# Altium integrated library Altium_WCAP-CSGP (rev19a).IntLib: 938 symbols (part 9 of 16)
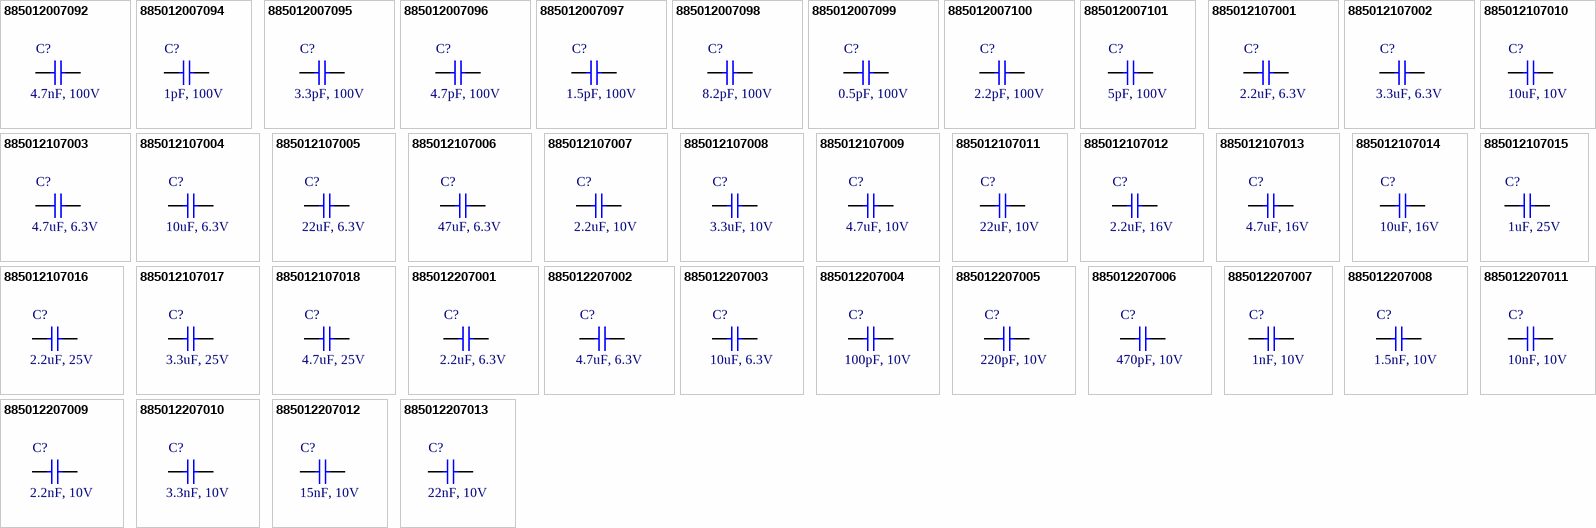
[diagram p35: symbols 885012007092 to 885012207013]

## 885012207010
designator C?, comment 3.3nF, 10V
WCAP-CSGP General Purpose Ceramic Capacitors, size 0805, 3.3nF, +/-10%, 10VDC; Part Number: 885012207010; Isolation Resistance: >=10GOhm; Ceramic Type: X7R; Technical Reference: X7R0805332K010DFCT10000; ComponentLink1Description: Manufacturer; ComponentLink1URL: http://www.we-online.de; ComponentLink2Description: Datasheet; ComponentLink2URL: https://katalog.we-online.com/pbs/datasheet/885012207010.pdf; Operating Temperature: -55 to +125degC; Packaging: Tape and Reel; Publisher: Wurth Elektronik; Rated Voltage: 10VDC; Published Date: August 2019; Capacitance Tolerance: +/-10%; Dissipation Factor: =<5%; Height: 0.8mm +/-0.10mm; Mounting Technology: SMD; Size: 0805; Capacitance: 3.3nF
footprint WCAP-CSGP_0805_H=0.8mm_Wave
footprint WCAP-CSGP_0805_H=0.8mm_Reflow
pins: 1, 2

## 885012207011
designator C?, comment 10nF, 10V
WCAP-CSGP General Purpose Ceramic Capacitors, size 0805, 10nF, +/-10%, 10VDC; Part Number: 885012207011; Isolation Resistance: >=10GOhm; Ceramic Type: X7R; Technical Reference: X7R0805103K010DFCT10000; ComponentLink1Description: Manufacturer; ComponentLink1URL: http://www.we-online.de; ComponentLink2Description: Datasheet; ComponentLink2URL: https://katalog.we-online.com/pbs/datasheet/885012207011.pdf; Operating Temperature: -55 to +125degC; Packaging: Tape and Reel; Publisher: Wurth Elektronik; Rated Voltage: 10VDC; Published Date: August 2019; Capacitance Tolerance: +/-10%; Dissipation Factor: =<5%; Height: 0.8mm +/-0.10mm; Mounting Technology: SMD; Size: 0805; Capacitance: 10nF
footprint WCAP-CSGP_0805_H=0.8mm_Wave
footprint WCAP-CSGP_0805_H=0.8mm_Reflow
pins: 1, 2

## 885012207012
designator C?, comment 15nF, 10V
WCAP-CSGP General Purpose Ceramic Capacitors, size 0805, 15nF, +/-10%, 10VDC; Part Number: 885012207012; Isolation Resistance: >=10GOhm; Ceramic Type: X7R; Technical Reference: X7R0805153K010DFCT10000; ComponentLink1Description: Manufacturer; ComponentLink1URL: http://www.we-online.de; ComponentLink2Description: Datasheet; ComponentLink2URL: https://katalog.we-online.com/pbs/datasheet/885012207012.pdf; Operating Temperature: -55 to +125degC; Packaging: Tape and Reel; Publisher: Wurth Elektronik; Rated Voltage: 10VDC; Published Date: August 2019; Capacitance Tolerance: +/-10%; Dissipation Factor: =<5%; Height: 0.8mm +/-0.10mm; Mounting Technology: SMD; Size: 0805; Capacitance: 15nF
footprint WCAP-CSGP_0805_H=0.8mm_Wave
footprint WCAP-CSGP_0805_H=0.8mm_Reflow
pins: 1, 2

## 885012207013
designator C?, comment 22nF, 10V
WCAP-CSGP General Purpose Ceramic Capacitors, size 0805, 22nF, +/-10%, 10VDC; Part Number: 885012207013; Isolation Resistance: >=10GOhm; Ceramic Type: X7R; Technical Reference: X7R0805223K010DFCT10000; ComponentLink1Description: Manufacturer; ComponentLink1URL: http://www.we-online.de; ComponentLink2Description: Datasheet; ComponentLink2URL: https://katalog.we-online.com/pbs/datasheet/885012207013.pdf; Operating Temperature: -55 to +125degC; Packaging: Tape and Reel; Publisher: Wurth Elektronik; Rated Voltage: 10VDC; Published Date: August 2019; Capacitance Tolerance: +/-10%; Dissipation Factor: =<5%; Height: 0.8mm +/-0.10mm; Mounting Technology: SMD; Size: 0805; Capacitance: 22nF
footprint WCAP-CSGP_0805_H=0.8mm_Wave
footprint WCAP-CSGP_0805_H=0.8mm_Reflow
pins: 1, 2

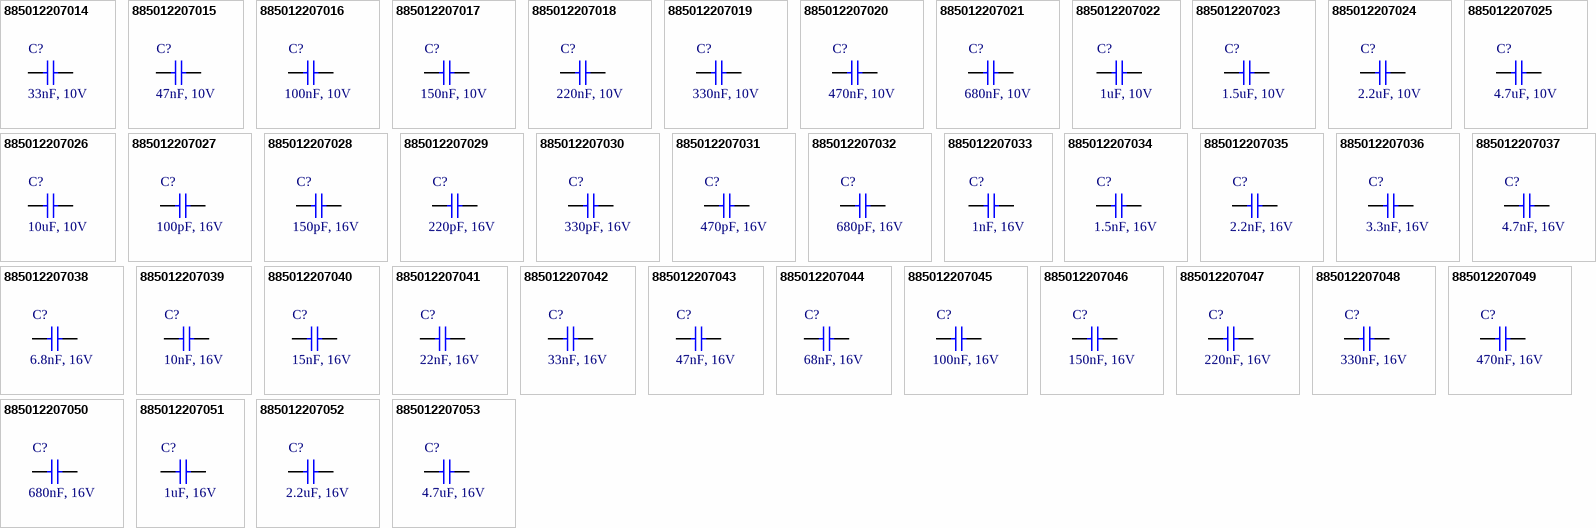
[diagram p14: symbols 885012207014 to 885012207053]

## 885012207014
designator C?, comment 33nF, 10V
WCAP-CSGP General Purpose Ceramic Capacitors, size 0805, 33nF, +/-10%, 10VDC; Part Number: 885012207014; Isolation Resistance: >=10GOhm; Ceramic Type: X7R; Technical Reference: X7R0805333K010DFCT10000; ComponentLink1Description: Manufacturer; ComponentLink1URL: http://www.we-online.de; ComponentLink2Description: Datasheet; ComponentLink2URL: https://katalog.we-online.com/pbs/datasheet/885012207014.pdf; Operating Temperature: -55 to +125degC; Packaging: Tape and Reel; Publisher: Wurth Elektronik; Rated Voltage: 10VDC; Published Date: August 2019; Capacitance Tolerance: +/-10%; Dissipation Factor: =<5%; Height: 0.8mm +/-0.10mm; Mounting Technology: SMD; Size: 0805; Capacitance: 33nF
footprint WCAP-CSGP_0805_H=0.8mm_Wave
footprint WCAP-CSGP_0805_H=0.8mm_Reflow
pins: 1, 2

## 885012207015
designator C?, comment 47nF, 10V
WCAP-CSGP General Purpose Ceramic Capacitors, size 0805, 47nF, +/-10%, 10VDC; Part Number: 885012207015; Isolation Resistance: >=10GOhm; Ceramic Type: X7R; Technical Reference: X7R0805473K010DFCT10000; ComponentLink1Description: Manufacturer; ComponentLink1URL: http://www.we-online.de; ComponentLink2Description: Datasheet; ComponentLink2URL: https://katalog.we-online.com/pbs/datasheet/885012207015.pdf; Operating Temperature: -55 to +125degC; Packaging: Tape and Reel; Publisher: Wurth Elektronik; Rated Voltage: 10VDC; Published Date: August 2019; Capacitance Tolerance: +/-10%; Dissipation Factor: =<5%; Height: 0.8mm +/-0.10mm; Mounting Technology: SMD; Size: 0805; Capacitance: 47nF
footprint WCAP-CSGP_0805_H=0.8mm_Wave
footprint WCAP-CSGP_0805_H=0.8mm_Reflow
pins: 1, 2

## 885012207016
designator C?, comment 100nF, 10V
WCAP-CSGP General Purpose Ceramic Capacitors, size 0805, 100nF, +/-10%, 10VDC; Part Number: 885012207016; Isolation Resistance: >=5GOhm; Ceramic Type: X7R; Technical Reference: X7R0805104K010DFCT10000; ComponentLink1Description: Manufacturer; ComponentLink1URL: http://www.we-online.de; ComponentLink2Description: Datasheet; ComponentLink2URL: https://katalog.we-online.com/pbs/datasheet/885012207016.pdf; Operating Temperature: -55 to +125degC; Packaging: Tape and Reel; Publisher: Wurth Elektronik; Rated Voltage: 10VDC; Published Date: August 2019; Capacitance Tolerance: +/-10%; Dissipation Factor: =<5%; Height: 0.8mm +/-0.10mm; Mounting Technology: SMD; Size: 0805; Capacitance: 100nF
footprint WCAP-CSGP_0805_H=0.8mm_Wave
footprint WCAP-CSGP_0805_H=0.8mm_Reflow
pins: 1, 2

## 885012207017
designator C?, comment 150nF, 10V
WCAP-CSGP General Purpose Ceramic Capacitors, size 0805, 150nF, +/-10%, 10VDC; Part Number: 885012207017; Isolation Resistance: >=3.3GOhm; Ceramic Type: X7R; Technical Reference: X7R0805154K010DFCT10000; ComponentLink1Description: Manufacturer; ComponentLink1URL: http://www.we-online.de; ComponentLink2Description: Datasheet; ComponentLink2URL: https://katalog.we-online.com/pbs/datasheet/885012207017.pdf; Operating Temperature: -55 to +125degC; Packaging: Tape and Reel; Publisher: Wurth Elektronik; Rated Voltage: 10VDC; Published Date: August 2019; Capacitance Tolerance: +/-10%; Dissipation Factor: =<5%; Height: 1.25mm +/-0.10mm; Mounting Technology: SMD; Size: 0805; Capacitance: 150nF
footprint WCAP-CSGP_0805_H=1.25mm
pins: 1, 2

## 885012207018
designator C?, comment 220nF, 10V
WCAP-CSGP General Purpose Ceramic Capacitors, size 0805, 220nF, +/-10%, 10VDC; Part Number: 885012207018; Isolation Resistance: >=2.3GOhm; Ceramic Type: X7R; Technical Reference: X7R0805224K010DFCT10000; ComponentLink1Description: Manufacturer; ComponentLink1URL: http://www.we-online.de; ComponentLink2Description: Datasheet; ComponentLink2URL: https://katalog.we-online.com/pbs/datasheet/885012207018.pdf; Operating Temperature: -55 to +125degC; Packaging: Tape and Reel; Publisher: Wurth Elektronik; Rated Voltage: 10VDC; Published Date: August 2019; Capacitance Tolerance: +/-10%; Dissipation Factor: =<5%; Height: 1.25mm +/-0.10mm; Mounting Technology: SMD; Size: 0805; Capacitance: 220nF
footprint WCAP-CSGP_0805_H=1.25mm
pins: 1, 2

## 885012207019
designator C?, comment 330nF, 10V
WCAP-CSGP General Purpose Ceramic Capacitors, size 0805, 330nF, +/-10%, 10VDC; Part Number: 885012207019; Isolation Resistance: >=1.5GOhm; Ceramic Type: X7R; Technical Reference: X7R0805334K010DFCT10000; ComponentLink1Description: Manufacturer; ComponentLink1URL: http://www.we-online.de; ComponentLink2Description: Datasheet; ComponentLink2URL: https://katalog.we-online.com/pbs/datasheet/885012207019.pdf; Operating Temperature: -55 to +125degC; Packaging: Tape and Reel; Publisher: Wurth Elektronik; Rated Voltage: 10VDC; Published Date: August 2019; Capacitance Tolerance: +/-10%; Dissipation Factor: =<5%; Height: 1.25mm +/-0.10mm; Mounting Technology: SMD; Size: 0805; Capacitance: 330nF
footprint WCAP-CSGP_0805_H=1.25mm
pins: 1, 2

## 885012207020
designator C?, comment 470nF, 10V
WCAP-CSGP General Purpose Ceramic Capacitors, size 0805, 470nF, +/-10%, 10VDC; Part Number: 885012207020; Isolation Resistance: >=1.1GOhm; Ceramic Type: X7R; Technical Reference: X7R0805474K010DFCT10000; ComponentLink1Description: Manufacturer; ComponentLink1URL: http://www.we-online.de; ComponentLink2Description: Datasheet; ComponentLink2URL: https://katalog.we-online.com/pbs/datasheet/885012207020.pdf; Operating Temperature: -55 to +125degC; Packaging: Tape and Reel; Publisher: Wurth Elektronik; Rated Voltage: 10VDC; Published Date: August 2019; Capacitance Tolerance: +/-10%; Dissipation Factor: =<5%; Height: 1.25mm +/-0.10mm; Mounting Technology: SMD; Size: 0805; Capacitance: 470nF
footprint WCAP-CSGP_0805_H=1.25mm
pins: 1, 2

## 885012207021
designator C?, comment 680nF, 10V
WCAP-CSGP General Purpose Ceramic Capacitors, size 0805, 680nF, +/-10%, 10VDC; Part Number: 885012207021; Isolation Resistance: >=0.7GOhm; Ceramic Type: X7R; Technical Reference: X7R0805684K010DFCT10000; ComponentLink1Description: Manufacturer; ComponentLink1URL: http://www.we-online.de; ComponentLink2Description: Datasheet; ComponentLink2URL: https://katalog.we-online.com/pbs/datasheet/885012207021.pdf; Operating Temperature: -55 to +125degC; Packaging: Tape and Reel; Publisher: Wurth Elektronik; Rated Voltage: 10VDC; Published Date: August 2019; Capacitance Tolerance: +/-10%; Dissipation Factor: =<5%; Height: 1.25mm +/-0.10mm; Mounting Technology: SMD; Size: 0805; Capacitance: 680nF
footprint WCAP-CSGP_0805_H=1.25mm
pins: 1, 2

## 885012207022
designator C?, comment 1uF, 10V
WCAP-CSGP General Purpose Ceramic Capacitors, size 0805, 1uF, +/-10%, 10VDC; Part Number: 885012207022; Isolation Resistance: >=0.5GOhm; Ceramic Type: X7R; Technical Reference: X7R0805105K010DFCT10000; ComponentLink1Description: Manufacturer; ComponentLink1URL: http://www.we-online.de; ComponentLink2Description: Datasheet; ComponentLink2URL: https://katalog.we-online.com/pbs/datasheet/885012207022.pdf; Operating Temperature: -55 to +125degC; Packaging: Tape and Reel; Publisher: Wurth Elektronik; Rated Voltage: 10VDC; Published Date: August 2019; Capacitance Tolerance: +/-10%; Dissipation Factor: =<5%; Height: 1.25mm +/-0.10mm; Mounting Technology: SMD; Size: 0805; Capacitance: 1uF
footprint WCAP-CSGP_0805_H=1.25mm
pins: 1, 2

## 885012207023
designator C?, comment 1.5uF, 10V
WCAP-CSGP General Purpose Ceramic Capacitors, size 0805, 1.5uF, +/-10%, 10VDC; Part Number: 885012207023; Isolation Resistance: >=0.3GOhm; Ceramic Type: X7R; Technical Reference: X7R0805155K010DFCT10000; ComponentLink1Description: Manufacturer; ComponentLink1URL: http://www.we-online.de; ComponentLink2Description: Datasheet; ComponentLink2URL: https://katalog.we-online.com/pbs/datasheet/885012207023.pdf; Operating Temperature: -55 to +125degC; Packaging: Tape and Reel; Publisher: Wurth Elektronik; Rated Voltage: 10VDC; Published Date: August 2019; Capacitance Tolerance: +/-10%; Dissipation Factor: =<5%; Height: 1.25mm +/-0.20mm; Mounting Technology: SMD; Size: 0805; Capacitance: 1.5uF
footprint WCAP-CSGP_0805_H=1.25mm
pins: 1, 2

## 885012207024
designator C?, comment 2.2uF, 10V
WCAP-CSGP General Purpose Ceramic Capacitors, size 0805, 2.2uF, +/-10%, 10VDC; Part Number: 885012207024; Isolation Resistance: >=0.05GOhm; Ceramic Type: X7R; Technical Reference: X7R0805225K010DFCT10000; ComponentLink1Description: Manufacturer; ComponentLink1URL: http://www.we-online.de; ComponentLink2Description: Datasheet; ComponentLink2URL: https://katalog.we-online.com/pbs/datasheet/885012207024.pdf; Operating Temperature: -55 to +125degC; Packaging: Tape and Reel; Publisher: Wurth Elektronik; Rated Voltage: 10VDC; Published Date: August 2019; Capacitance Tolerance: +/-10%; Dissipation Factor: =<10%; Height: 1.25mm +/-0.20mm; Mounting Technology: SMD; Size: 0805; Capacitance: 2.2uF
footprint WCAP-CSGP_0805_H=1.25mm
pins: 1, 2

## 885012207025
designator C?, comment 4.7uF, 10V
WCAP-CSGP General Purpose Ceramic Capacitors, size 0805, 4.7uF, +/-10%, 10VDC; Part Number: 885012207025; Isolation Resistance: >=0.02GOhm; Ceramic Type: X7R; Technical Reference: X7R0805475K010DFCT10000; ComponentLink1Description: Manufacturer; ComponentLink1URL: http://www.we-online.de; ComponentLink2Description: Datasheet; ComponentLink2URL: https://katalog.we-online.com/pbs/datasheet/885012207025.pdf; Operating Temperature: -55 to +125degC; Packaging: Tape and Reel; Publisher: Wurth Elektronik; Rated Voltage: 10VDC; Published Date: August 2019; Capacitance Tolerance: +/-10%; Dissipation Factor: =<10%; Height: 1.25mm +/-0.10mm; Mounting Technology: SMD; Size: 0805; Capacitance: 4.7uF
footprint WCAP-CSGP_0805_H=1.25mm
pins: 1, 2

## 885012207026
designator C?, comment 10uF, 10V
WCAP-CSGP General Purpose Ceramic Capacitors, size 0805, 10uF, +/-10%, 10VDC; Part Number: 885012207026; Isolation Resistance: >=0.01GOhm; Ceramic Type: X7R; Technical Reference: X7R0805106K010DFCT10000; ComponentLink1Description: Manufacturer; ComponentLink1URL: http://www.we-online.de; ComponentLink2Description: Datasheet; ComponentLink2URL: https://katalog.we-online.com/pbs/datasheet/885012207026.pdf; Operating Temperature: -55 to +125degC; Packaging: Tape and Reel; Publisher: Wurth Elektronik; Rated Voltage: 10VDC; Published Date: August 2019; Capacitance Tolerance: +/-10%; Dissipation Factor: =<10%; Height: 1.25mm +/-0.10mm; Mounting Technology: SMD; Size: 0805; Capacitance: 10uF
footprint WCAP-CSGP_0805_H=1.25mm
pins: 1, 2

## 885012207027
designator C?, comment 100pF, 16V
WCAP-CSGP General Purpose Ceramic Capacitors, size 0805, 100pF, +/-10%, 16VDC; Part Number: 885012207027; Isolation Resistance: >=10GOhm; Ceramic Type: X7R; Technical Reference: X7R0805101K016DFCT10000; ComponentLink1Description: Manufacturer; ComponentLink1URL: http://www.we-online.de; ComponentLink2Description: Datasheet; ComponentLink2URL: https://katalog.we-online.com/pbs/datasheet/885012207027.pdf; Operating Temperature: -55 to +125degC; Packaging: Tape and Reel; Publisher: Wurth Elektronik; Rated Voltage: 16VDC; Published Date: August 2019; Capacitance Tolerance: +/-10%; Dissipation Factor: =<3.5%; Height: 0.8mm +/-0.10mm; Mounting Technology: SMD; Size: 0805; Capacitance: 100pF
footprint WCAP-CSGP_0805_H=0.8mm_Wave
footprint WCAP-CSGP_0805_H=0.8mm_Reflow
pins: 1, 2

## 885012207028
designator C?, comment 150pF, 16V
WCAP-CSGP General Purpose Ceramic Capacitors, size 0805, 150pF, +/-10%, 16VDC; Part Number: 885012207028; Isolation Resistance: >=10GOhm; Ceramic Type: X7R; Technical Reference: X7R0805151K016DFCT10000; ComponentLink1Description: Manufacturer; ComponentLink1URL: http://www.we-online.de; ComponentLink2Description: Datasheet; ComponentLink2URL: https://katalog.we-online.com/pbs/datasheet/885012207028.pdf; Operating Temperature: -55 to +125degC; Packaging: Tape and Reel; Publisher: Wurth Elektronik; Rated Voltage: 16VDC; Published Date: August 2019; Capacitance Tolerance: +/-10%; Dissipation Factor: =<3.5%; Height: 0.8mm +/-0.10mm; Mounting Technology: SMD; Size: 0805; Capacitance: 150pF
footprint WCAP-CSGP_0805_H=0.8mm_Wave
footprint WCAP-CSGP_0805_H=0.8mm_Reflow
pins: 1, 2

## 885012207029
designator C?, comment 220pF, 16V
WCAP-CSGP General Purpose Ceramic Capacitors, size 0805, 220pF, +/-10%, 16VDC; Part Number: 885012207029; Isolation Resistance: >=10GOhm; Ceramic Type: X7R; Technical Reference: X7R0805221K016DFCT10000; ComponentLink1Description: Manufacturer; ComponentLink1URL: http://www.we-online.de; ComponentLink2Description: Datasheet; ComponentLink2URL: https://katalog.we-online.com/pbs/datasheet/885012207029.pdf; Operating Temperature: -55 to +125degC; Packaging: Tape and Reel; Publisher: Wurth Elektronik; Rated Voltage: 16VDC; Published Date: August 2019; Capacitance Tolerance: +/-10%; Dissipation Factor: =<3.5%; Height: 0.8mm +/-0.10mm; Mounting Technology: SMD; Size: 0805; Capacitance: 220pF
footprint WCAP-CSGP_0805_H=0.8mm_Wave
footprint WCAP-CSGP_0805_H=0.8mm_Reflow
pins: 1, 2

## 885012207030
designator C?, comment 330pF, 16V
WCAP-CSGP General Purpose Ceramic Capacitors, size 0805, 330pF, +/-10%, 16VDC; Part Number: 885012207030; Isolation Resistance: >=10GOhm; Ceramic Type: X7R; Technical Reference: X7R0805331K016DFCT10000; ComponentLink1Description: Manufacturer; ComponentLink1URL: http://www.we-online.de; ComponentLink2Description: Datasheet; ComponentLink2URL: https://katalog.we-online.com/pbs/datasheet/885012207030.pdf; Operating Temperature: -55 to +125degC; Packaging: Tape and Reel; Publisher: Wurth Elektronik; Rated Voltage: 16VDC; Published Date: August 2019; Capacitance Tolerance: +/-10%; Dissipation Factor: =<3.5%; Height: 0.8mm +/-0.10mm; Mounting Technology: SMD; Size: 0805; Capacitance: 330pF
footprint WCAP-CSGP_0805_H=0.8mm_Wave
footprint WCAP-CSGP_0805_H=0.8mm_Reflow
pins: 1, 2

## 885012207031
designator C?, comment 470pF, 16V
WCAP-CSGP General Purpose Ceramic Capacitors, size 0805, 470pF, +/-10%, 16VDC; Part Number: 885012207031; Isolation Resistance: >=10GOhm; Ceramic Type: X7R; Technical Reference: X7R0805471K016DFCT10000; ComponentLink1Description: Manufacturer; ComponentLink1URL: http://www.we-online.de; ComponentLink2Description: Datasheet; ComponentLink2URL: https://katalog.we-online.com/pbs/datasheet/885012207031.pdf; Operating Temperature: -55 to +125degC; Packaging: Tape and Reel; Publisher: Wurth Elektronik; Rated Voltage: 16VDC; Published Date: August 2019; Capacitance Tolerance: +/-10%; Dissipation Factor: =<3.5%; Height: 0.8mm +/-0.10mm; Mounting Technology: SMD; Size: 0805; Capacitance: 470pF
footprint WCAP-CSGP_0805_H=0.8mm_Wave
footprint WCAP-CSGP_0805_H=0.8mm_Reflow
pins: 1, 2

## 885012207032
designator C?, comment 680pF, 16V
WCAP-CSGP General Purpose Ceramic Capacitors, size 0805, 680pF, +/-10%, 16VDC; Part Number: 885012207032; Isolation Resistance: >=10GOhm; Ceramic Type: X7R; Technical Reference: X7R0805681K016DFCT10000; ComponentLink1Description: Manufacturer; ComponentLink1URL: http://www.we-online.de; ComponentLink2Description: Datasheet; ComponentLink2URL: https://katalog.we-online.com/pbs/datasheet/885012207032.pdf; Operating Temperature: -55 to +125degC; Packaging: Tape and Reel; Publisher: Wurth Elektronik; Rated Voltage: 16VDC; Published Date: August 2019; Capacitance Tolerance: +/-10%; Dissipation Factor: =<3.5%; Height: 0.8mm +/-0.10mm; Mounting Technology: SMD; Size: 0805; Capacitance: 680pF
footprint WCAP-CSGP_0805_H=0.8mm_Wave
footprint WCAP-CSGP_0805_H=0.8mm_Reflow
pins: 1, 2

## 885012207033
designator C?, comment 1nF, 16V
WCAP-CSGP General Purpose Ceramic Capacitors, size 0805, 1nF, +/-10%, 16VDC; Part Number: 885012207033; Isolation Resistance: >=10GOhm; Ceramic Type: X7R; Technical Reference: X7R0805102K016DFCT10000; ComponentLink1Description: Manufacturer; ComponentLink1URL: http://www.we-online.de; ComponentLink2Description: Datasheet; ComponentLink2URL: https://katalog.we-online.com/pbs/datasheet/885012207033.pdf; Operating Temperature: -55 to +125degC; Packaging: Tape and Reel; Publisher: Wurth Elektronik; Rated Voltage: 16VDC; Published Date: August 2019; Capacitance Tolerance: +/-10%; Dissipation Factor: =<3.5%; Height: 0.8mm +/-0.10mm; Mounting Technology: SMD; Size: 0805; Capacitance: 1nF
footprint WCAP-CSGP_0805_H=0.8mm_Wave
footprint WCAP-CSGP_0805_H=0.8mm_Reflow
pins: 1, 2

## 885012207034
designator C?, comment 1.5nF, 16V
WCAP-CSGP General Purpose Ceramic Capacitors, size 0805, 1.5nF, +/-10%, 16VDC; Part Number: 885012207034; Isolation Resistance: >=10GOhm; Ceramic Type: X7R; Technical Reference: X7R0805152K016DFCT10000; ComponentLink1Description: Manufacturer; ComponentLink1URL: http://www.we-online.de; ComponentLink2Description: Datasheet; ComponentLink2URL: https://katalog.we-online.com/pbs/datasheet/885012207034.pdf; Operating Temperature: -55 to +125degC; Packaging: Tape and Reel; Publisher: Wurth Elektronik; Rated Voltage: 16VDC; Published Date: August 2019; Capacitance Tolerance: +/-10%; Dissipation Factor: =<3.5%; Height: 0.8mm +/-0.10mm; Mounting Technology: SMD; Size: 0805; Capacitance: 1.5nF
footprint WCAP-CSGP_0805_H=0.8mm_Wave
footprint WCAP-CSGP_0805_H=0.8mm_Reflow
pins: 1, 2

## 885012207035
designator C?, comment 2.2nF, 16V
WCAP-CSGP General Purpose Ceramic Capacitors, size 0805, 2.2nF, +/-10%, 16VDC; Part Number: 885012207035; Isolation Resistance: >=10GOhm; Ceramic Type: X7R; Technical Reference: X7R0805222K016DFCT10000; ComponentLink1Description: Manufacturer; ComponentLink1URL: http://www.we-online.de; ComponentLink2Description: Datasheet; ComponentLink2URL: https://katalog.we-online.com/pbs/datasheet/885012207035.pdf; Operating Temperature: -55 to +125degC; Packaging: Tape and Reel; Publisher: Wurth Elektronik; Rated Voltage: 16VDC; Published Date: August 2019; Capacitance Tolerance: +/-10%; Dissipation Factor: =<3.5%; Height: 0.8mm +/-0.10mm; Mounting Technology: SMD; Size: 0805; Capacitance: 2.2nF
footprint WCAP-CSGP_0805_H=0.8mm_Wave
footprint WCAP-CSGP_0805_H=0.8mm_Reflow
pins: 1, 2

## 885012207036
designator C?, comment 3.3nF, 16V
WCAP-CSGP General Purpose Ceramic Capacitors, size 0805, 3.3nF, +/-10%, 16VDC; Part Number: 885012207036; Isolation Resistance: >=10GOhm; Ceramic Type: X7R; Technical Reference: X7R0805332K016DFCT10000; ComponentLink1Description: Manufacturer; ComponentLink1URL: http://www.we-online.de; ComponentLink2Description: Datasheet; ComponentLink2URL: https://katalog.we-online.com/pbs/datasheet/885012207036.pdf; Operating Temperature: -55 to +125degC; Packaging: Tape and Reel; Publisher: Wurth Elektronik; Rated Voltage: 16VDC; Published Date: August 2019; Capacitance Tolerance: +/-10%; Dissipation Factor: =<3.5%; Height: 0.8mm +/-0.10mm; Mounting Technology: SMD; Size: 0805; Capacitance: 3.3nF
footprint WCAP-CSGP_0805_H=0.8mm_Wave
footprint WCAP-CSGP_0805_H=0.8mm_Reflow
pins: 1, 2

## 885012207037
designator C?, comment 4.7nF, 16V
WCAP-CSGP General Purpose Ceramic Capacitors, size 0805, 4.7nF, +/-10%, 16VDC; Part Number: 885012207037; Isolation Resistance: >=10GOhm; Ceramic Type: X7R; Technical Reference: X7R0805472K016DFCT10000; ComponentLink1Description: Manufacturer; ComponentLink1URL: http://www.we-online.de; ComponentLink2Description: Datasheet; ComponentLink2URL: https://katalog.we-online.com/pbs/datasheet/885012207037.pdf; Operating Temperature: -55 to +125degC; Packaging: Tape and Reel; Publisher: Wurth Elektronik; Rated Voltage: 16VDC; Published Date: August 2019; Capacitance Tolerance: +/-10%; Dissipation Factor: =<3.5%; Height: 0.8mm +/-0.10mm; Mounting Technology: SMD; Size: 0805; Capacitance: 4.7nF
footprint WCAP-CSGP_0805_H=0.8mm_Wave
footprint WCAP-CSGP_0805_H=0.8mm_Reflow
pins: 1, 2

## 885012207038
designator C?, comment 6.8nF, 16V
WCAP-CSGP General Purpose Ceramic Capacitors, size 0805, 6.8nF, +/-10%, 16VDC; Part Number: 885012207038; Isolation Resistance: >=10GOhm; Ceramic Type: X7R; Technical Reference: X7R0805682K016DFCT10000; ComponentLink1Description: Manufacturer; ComponentLink1URL: http://www.we-online.de; ComponentLink2Description: Datasheet; ComponentLink2URL: https://katalog.we-online.com/pbs/datasheet/885012207038.pdf; Operating Temperature: -55 to +125degC; Packaging: Tape and Reel; Publisher: Wurth Elektronik; Rated Voltage: 16VDC; Published Date: August 2019; Capacitance Tolerance: +/-10%; Dissipation Factor: =<3.5%; Height: 0.8mm +/-0.10mm; Mounting Technology: SMD; Size: 0805; Capacitance: 6.8nF
footprint WCAP-CSGP_0805_H=0.8mm_Wave
footprint WCAP-CSGP_0805_H=0.8mm_Reflow
pins: 1, 2

## 885012207039
designator C?, comment 10nF, 16V
WCAP-CSGP General Purpose Ceramic Capacitors, size 0805, 10nF, +/-10%, 16VDC; Part Number: 885012207039; Isolation Resistance: >=10GOhm; Ceramic Type: X7R; Technical Reference: X7R0805103K016DFCT10000; ComponentLink1Description: Manufacturer; ComponentLink1URL: http://www.we-online.de; ComponentLink2Description: Datasheet; ComponentLink2URL: https://katalog.we-online.com/pbs/datasheet/885012207039.pdf; Operating Temperature: -55 to +125degC; Packaging: Tape and Reel; Publisher: Wurth Elektronik; Rated Voltage: 16VDC; Published Date: August 2019; Capacitance Tolerance: +/-10%; Dissipation Factor: =<3.5%; Height: 0.8mm +/-0.10mm; Mounting Technology: SMD; Size: 0805; Capacitance: 10nF
footprint WCAP-CSGP_0805_H=0.8mm_Wave
footprint WCAP-CSGP_0805_H=0.8mm_Reflow
pins: 1, 2

## 885012207040
designator C?, comment 15nF, 16V
WCAP-CSGP General Purpose Ceramic Capacitors, size 0805, 15nF, +/-10%, 16VDC; Part Number: 885012207040; Isolation Resistance: >=10GOhm; Ceramic Type: X7R; Technical Reference: X7R0805153K016DFCT10000; ComponentLink1Description: Manufacturer; ComponentLink1URL: http://www.we-online.de; ComponentLink2Description: Datasheet; ComponentLink2URL: https://katalog.we-online.com/pbs/datasheet/885012207040.pdf; Operating Temperature: -55 to +125degC; Packaging: Tape and Reel; Publisher: Wurth Elektronik; Rated Voltage: 16VDC; Published Date: August 2019; Capacitance Tolerance: +/-10%; Dissipation Factor: =<3.5%; Height: 0.8mm +/-0.10mm; Mounting Technology: SMD; Size: 0805; Capacitance: 15nF
footprint WCAP-CSGP_0805_H=0.8mm_Wave
footprint WCAP-CSGP_0805_H=0.8mm_Reflow
pins: 1, 2

## 885012207041
designator C?, comment 22nF, 16V
WCAP-CSGP General Purpose Ceramic Capacitors, size 0805, 22nF, +/-10%, 16VDC; Part Number: 885012207041; Isolation Resistance: >=10GOhm; Ceramic Type: X7R; Technical Reference: X7R0805223K016DFCT10000; ComponentLink1Description: Manufacturer; ComponentLink1URL: http://www.we-online.de; ComponentLink2Description: Datasheet; ComponentLink2URL: https://katalog.we-online.com/pbs/datasheet/885012207041.pdf; Operating Temperature: -55 to +125degC; Packaging: Tape and Reel; Publisher: Wurth Elektronik; Rated Voltage: 16VDC; Published Date: August 2019; Capacitance Tolerance: +/-10%; Dissipation Factor: =<3.5%; Height: 0.8mm +/-0.10mm; Mounting Technology: SMD; Size: 0805; Capacitance: 22nF
footprint WCAP-CSGP_0805_H=0.8mm_Wave
footprint WCAP-CSGP_0805_H=0.8mm_Reflow
pins: 1, 2

## 885012207042
designator C?, comment 33nF, 16V
WCAP-CSGP General Purpose Ceramic Capacitors, size 0805, 33nF, +/-10%, 16VDC; Part Number: 885012207042; Isolation Resistance: >=10GOhm; Ceramic Type: X7R; Technical Reference: X7R0805333K016DFCT10000; ComponentLink1Description: Manufacturer; ComponentLink1URL: http://www.we-online.de; ComponentLink2Description: Datasheet; ComponentLink2URL: https://katalog.we-online.com/pbs/datasheet/885012207042.pdf; Operating Temperature: -55 to +125degC; Packaging: Tape and Reel; Publisher: Wurth Elektronik; Rated Voltage: 16VDC; Published Date: August 2019; Capacitance Tolerance: +/-10%; Dissipation Factor: =<3.5%; Height: 0.8mm +/-0.10mm; Mounting Technology: SMD; Size: 0805; Capacitance: 33nF
footprint WCAP-CSGP_0805_H=0.8mm_Wave
footprint WCAP-CSGP_0805_H=0.8mm_Reflow
pins: 1, 2

## 885012207043
designator C?, comment 47nF, 16V
WCAP-CSGP General Purpose Ceramic Capacitors, size 0805, 47nF, +/-10%, 16VDC; Part Number: 885012207043; Isolation Resistance: >=10GOhm; Ceramic Type: X7R; Technical Reference: X7R0805473K016DFCT10000; ComponentLink1Description: Manufacturer; ComponentLink1URL: http://www.we-online.de; ComponentLink2Description: Datasheet; ComponentLink2URL: https://katalog.we-online.com/pbs/datasheet/885012207043.pdf; Operating Temperature: -55 to +125degC; Packaging: Tape and Reel; Publisher: Wurth Elektronik; Rated Voltage: 16VDC; Published Date: August 2019; Capacitance Tolerance: +/-10%; Dissipation Factor: =<3.5%; Height: 0.8mm +/-0.10mm; Mounting Technology: SMD; Size: 0805; Capacitance: 47nF
footprint WCAP-CSGP_0805_H=0.8mm_Wave
footprint WCAP-CSGP_0805_H=0.8mm_Reflow
pins: 1, 2

## 885012207044
designator C?, comment 68nF, 16V
WCAP-CSGP General Purpose Ceramic Capacitors, size 0805, 68nF, +/-10%, 16VDC; Part Number: 885012207044; Isolation Resistance: >=7.4GOhm; Ceramic Type: X7R; Technical Reference: X7R0805683K016DFCT10000; ComponentLink1Description: Manufacturer; ComponentLink1URL: http://www.we-online.de; ComponentLink2Description: Datasheet; ComponentLink2URL: https://katalog.we-online.com/pbs/datasheet/885012207044.pdf; Operating Temperature: -55 to +125degC; Packaging: Tape and Reel; Publisher: Wurth Elektronik; Rated Voltage: 16VDC; Published Date: August 2019; Capacitance Tolerance: +/-10%; Dissipation Factor: =<3.5%; Height: 0.8mm +/-0.10mm; Mounting Technology: SMD; Size: 0805; Capacitance: 68nF
footprint WCAP-CSGP_0805_H=0.8mm_Wave
footprint WCAP-CSGP_0805_H=0.8mm_Reflow
pins: 1, 2

## 885012207045
designator C?, comment 100nF, 16V
WCAP-CSGP General Purpose Ceramic Capacitors, size 0805, 100nF, +/-10%, 16VDC; Part Number: 885012207045; Isolation Resistance: >=5GOhm; Ceramic Type: X7R; Technical Reference: X7R0805104K016DFCT10000; ComponentLink1Description: Manufacturer; ComponentLink1URL: http://www.we-online.de; ComponentLink2Description: Datasheet; ComponentLink2URL: https://katalog.we-online.com/pbs/datasheet/885012207045.pdf; Operating Temperature: -55 to +125degC; Packaging: Tape and Reel; Publisher: Wurth Elektronik; Rated Voltage: 16VDC; Published Date: August 2019; Capacitance Tolerance: +/-10%; Dissipation Factor: =<3.5%; Height: 0.8mm +/-0.10mm; Mounting Technology: SMD; Size: 0805; Capacitance: 100nF
footprint WCAP-CSGP_0805_H=0.8mm_Wave
footprint WCAP-CSGP_0805_H=0.8mm_Reflow
pins: 1, 2

## 885012207046
designator C?, comment 150nF, 16V
WCAP-CSGP General Purpose Ceramic Capacitors, size 0805, 150nF, +/-10%, 16VDC; Part Number: 885012207046; Isolation Resistance: >=3.3GOhm; Ceramic Type: X7R; Technical Reference: X7R0805154K016DFCT10000; ComponentLink1Description: Manufacturer; ComponentLink1URL: http://www.we-online.de; ComponentLink2Description: Datasheet; ComponentLink2URL: https://katalog.we-online.com/pbs/datasheet/885012207046.pdf; Operating Temperature: -55 to +125degC; Packaging: Tape and Reel; Publisher: Wurth Elektronik; Rated Voltage: 16VDC; Published Date: August 2019; Capacitance Tolerance: +/-10%; Dissipation Factor: =<3.5%; Height: 1.25mm +/-0.10mm; Mounting Technology: SMD; Size: 0805; Capacitance: 150nF
footprint WCAP-CSGP_0805_H=1.25mm
pins: 1, 2

## 885012207047
designator C?, comment 220nF, 16V
WCAP-CSGP General Purpose Ceramic Capacitors, size 0805, 220nF, +/-10%, 16VDC; Part Number: 885012207047; Isolation Resistance: >=2.3GOhm; Ceramic Type: X7R; Technical Reference: X7R0805224K016DFCT10000; ComponentLink1Description: Manufacturer; ComponentLink1URL: http://www.we-online.de; ComponentLink2Description: Datasheet; ComponentLink2URL: https://katalog.we-online.com/pbs/datasheet/885012207047.pdf; Operating Temperature: -55 to +125degC; Packaging: Tape and Reel; Publisher: Wurth Elektronik; Rated Voltage: 16VDC; Published Date: August 2019; Capacitance Tolerance: +/-10%; Dissipation Factor: =<3.5%; Height: 1.25mm +/-0.10mm; Mounting Technology: SMD; Size: 0805; Capacitance: 220nF
footprint WCAP-CSGP_0805_H=1.25mm
pins: 1, 2

## 885012207048
designator C?, comment 330nF, 16V
WCAP-CSGP General Purpose Ceramic Capacitors, size 0805, 330nF, +/-10%, 16VDC; Part Number: 885012207048; Isolation Resistance: >=1.5GOhm; Ceramic Type: X7R; Technical Reference: X7R0805334K016DFCT10000; ComponentLink1Description: Manufacturer; ComponentLink1URL: http://www.we-online.de; ComponentLink2Description: Datasheet; ComponentLink2URL: https://katalog.we-online.com/pbs/datasheet/885012207048.pdf; Operating Temperature: -55 to +125degC; Packaging: Tape and Reel; Publisher: Wurth Elektronik; Rated Voltage: 16VDC; Published Date: August 2019; Capacitance Tolerance: +/-10%; Dissipation Factor: =<3.5%; Height: 1.25mm +/-0.10mm; Mounting Technology: SMD; Size: 0805; Capacitance: 330nF
footprint WCAP-CSGP_0805_H=1.25mm
pins: 1, 2

## 885012207049
designator C?, comment 470nF, 16V
WCAP-CSGP General Purpose Ceramic Capacitors, size 0805, 470nF, +/-10%, 16VDC; Part Number: 885012207049; Isolation Resistance: >=1.1GOhm; Ceramic Type: X7R; Technical Reference: X7R0805474K016DFCT10000; ComponentLink1Description: Manufacturer; ComponentLink1URL: http://www.we-online.de; ComponentLink2Description: Datasheet; ComponentLink2URL: https://katalog.we-online.com/pbs/datasheet/885012207049.pdf; Operating Temperature: -55 to +125degC; Packaging: Tape and Reel; Publisher: Wurth Elektronik; Rated Voltage: 16VDC; Published Date: August 2019; Capacitance Tolerance: +/-10%; Dissipation Factor: =<3.5%; Height: 1.25mm +/-0.10mm; Mounting Technology: SMD; Size: 0805; Capacitance: 470nF
footprint WCAP-CSGP_0805_H=1.25mm
pins: 1, 2

## 885012207050
designator C?, comment 680nF, 16V
WCAP-CSGP General Purpose Ceramic Capacitors, size 0805, 680nF, +/-10%, 16VDC; Part Number: 885012207050; Isolation Resistance: >=0.7GOhm; Ceramic Type: X7R; Technical Reference: X7R0805684K016DFCT10000; ComponentLink1Description: Manufacturer; ComponentLink1URL: http://www.we-online.de; ComponentLink2Description: Datasheet; ComponentLink2URL: https://katalog.we-online.com/pbs/datasheet/885012207050.pdf; Operating Temperature: -55 to +125degC; Packaging: Tape and Reel; Publisher: Wurth Elektronik; Rated Voltage: 16VDC; Published Date: August 2019; Capacitance Tolerance: +/-10%; Dissipation Factor: =<5%; Height: 1.25mm +/-0.10mm; Mounting Technology: SMD; Size: 0805; Capacitance: 680nF
footprint WCAP-CSGP_0805_H=1.25mm
pins: 1, 2

## 885012207051
designator C?, comment 1uF, 16V
WCAP-CSGP General Purpose Ceramic Capacitors, size 0805, 1uF, +/-10%, 16VDC; Part Number: 885012207051; Isolation Resistance: >=0.5GOhm; Ceramic Type: X7R; Technical Reference: X7R0805105K016DFCT10000; ComponentLink1Description: Manufacturer; ComponentLink1URL: http://www.we-online.de; ComponentLink2Description: Datasheet; ComponentLink2URL: https://katalog.we-online.com/pbs/datasheet/885012207051.pdf; Operating Temperature: -55 to +125degC; Packaging: Tape and Reel; Publisher: Wurth Elektronik; Rated Voltage: 16VDC; Published Date: August 2019; Capacitance Tolerance: +/-10%; Dissipation Factor: =<5%; Height: 1.25mm +/-0.10mm; Mounting Technology: SMD; Size: 0805; Capacitance: 1uF
footprint WCAP-CSGP_0805_H=1.25mm
pins: 1, 2

## 885012207052
designator C?, comment 2.2uF, 16V
WCAP-CSGP General Purpose Ceramic Capacitors, size 0805, 2.2uF, +/-10%, 16VDC; Part Number: 885012207052; Isolation Resistance: >=0.05GOhm; Ceramic Type: X7R; Technical Reference: X7R0805225K016DFCT10000; ComponentLink1Description: Manufacturer; ComponentLink1URL: http://www.we-online.de; ComponentLink2Description: Datasheet; ComponentLink2URL: https://katalog.we-online.com/pbs/datasheet/885012207052.pdf; Operating Temperature: -55 to +125degC; Packaging: Tape and Reel; Publisher: Wurth Elektronik; Rated Voltage: 16VDC; Published Date: August 2019; Capacitance Tolerance: +/-10%; Dissipation Factor: =<10%; Height: 1.25mm +/-0.20mm; Mounting Technology: SMD; Size: 0805; Capacitance: 2.2uF
footprint WCAP-CSGP_0805_H=1.25mm
pins: 1, 2

## 885012207053
designator C?, comment 4.7uF, 16V
WCAP-CSGP General Purpose Ceramic Capacitors, size 0805, 4.7uF, +/-10%, 16VDC; Part Number: 885012207053; Isolation Resistance: >=0.02GOhm; Ceramic Type: X7R; Technical Reference: X7R0805475K016DFCT10000; ComponentLink1Description: Manufacturer; ComponentLink1URL: http://www.we-online.de; ComponentLink2Description: Datasheet; ComponentLink2URL: https://katalog.we-online.com/pbs/datasheet/885012207053.pdf; Operating Temperature: -55 to +125degC; Packaging: Tape and Reel; Publisher: Wurth Elektronik; Rated Voltage: 16VDC; Published Date: August 2019; Capacitance Tolerance: +/-10%; Dissipation Factor: =<10%; Height: 1.25mm +/-0.10mm; Mounting Technology: SMD; Size: 0805; Capacitance: 4.7uF
footprint WCAP-CSGP_0805_H=1.25mm
pins: 1, 2

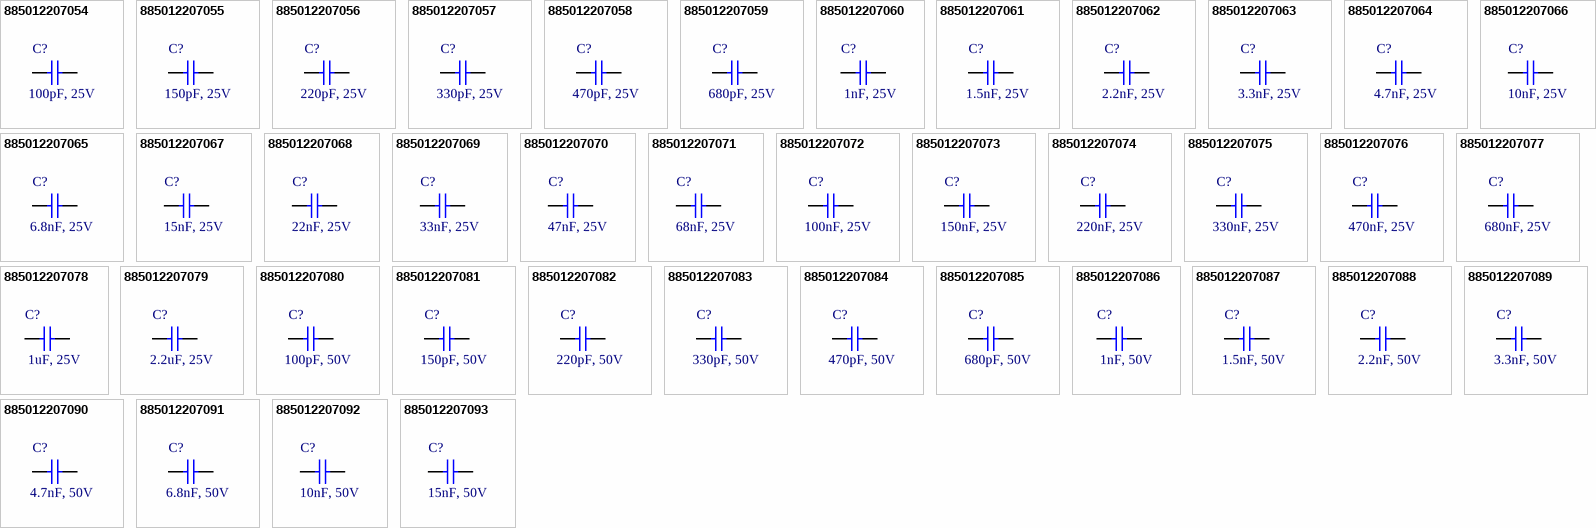
[diagram p15: symbols 885012207054 to 885012207093]

## 885012207054
designator C?, comment 100pF, 25V
WCAP-CSGP General Purpose Ceramic Capacitors, size 0805, 100pF, +/-10%, 25VDC; Part Number: 885012207054; Isolation Resistance: >=10GOhm; Ceramic Type: X7R; Technical Reference: X7R0805101K025DFCT10000; ComponentLink1Description: Manufacturer; ComponentLink1URL: http://www.we-online.de; ComponentLink2Description: Datasheet; ComponentLink2URL: https://katalog.we-online.com/pbs/datasheet/885012207054.pdf; Operating Temperature: -55 to +125degC; Packaging: Tape and Reel; Publisher: Wurth Elektronik; Rated Voltage: 25VDC; Published Date: August 2019; Capacitance Tolerance: +/-10%; Dissipation Factor: =<3.5%; Height: 0.8mm +/-0.10mm; Mounting Technology: SMD; Size: 0805; Capacitance: 100pF
footprint WCAP-CSGP_0805_H=0.8mm_Wave
footprint WCAP-CSGP_0805_H=0.8mm_Reflow
pins: 1, 2

## 885012207055
designator C?, comment 150pF, 25V
WCAP-CSGP General Purpose Ceramic Capacitors, size 0805, 150pF, +/-10%, 25VDC; Part Number: 885012207055; Isolation Resistance: >=10GOhm; Ceramic Type: X7R; Technical Reference: X7R0805151K025DFCT10000; ComponentLink1Description: Manufacturer; ComponentLink1URL: http://www.we-online.de; ComponentLink2Description: Datasheet; ComponentLink2URL: https://katalog.we-online.com/pbs/datasheet/885012207055.pdf; Operating Temperature: -55 to +125degC; Packaging: Tape and Reel; Publisher: Wurth Elektronik; Rated Voltage: 25VDC; Published Date: August 2019; Capacitance Tolerance: +/-10%; Dissipation Factor: =<3.5%; Height: 0.8mm +/-0.10mm; Mounting Technology: SMD; Size: 0805; Capacitance: 150pF
footprint WCAP-CSGP_0805_H=0.8mm_Wave
footprint WCAP-CSGP_0805_H=0.8mm_Reflow
pins: 1, 2

## 885012207056
designator C?, comment 220pF, 25V
WCAP-CSGP General Purpose Ceramic Capacitors, size 0805, 220pF, +/-10%, 25VDC; Part Number: 885012207056; Isolation Resistance: >=10GOhm; Ceramic Type: X7R; Technical Reference: X7R0805221K025DFCT10000; ComponentLink1Description: Manufacturer; ComponentLink1URL: http://www.we-online.de; ComponentLink2Description: Datasheet; ComponentLink2URL: https://katalog.we-online.com/pbs/datasheet/885012207056.pdf; Operating Temperature: -55 to +125degC; Packaging: Tape and Reel; Publisher: Wurth Elektronik; Rated Voltage: 25VDC; Published Date: August 2019; Capacitance Tolerance: +/-10%; Dissipation Factor: =<3.5%; Height: 0.8mm +/-0.10mm; Mounting Technology: SMD; Size: 0805; Capacitance: 220pF
footprint WCAP-CSGP_0805_H=0.8mm_Wave
footprint WCAP-CSGP_0805_H=0.8mm_Reflow
pins: 1, 2

## 885012207057
designator C?, comment 330pF, 25V
WCAP-CSGP General Purpose Ceramic Capacitors, size 0805, 330pF, +/-10%, 25VDC; Part Number: 885012207057; Isolation Resistance: >=10GOhm; Ceramic Type: X7R; Technical Reference: X7R0805331K025DFCT10000; ComponentLink1Description: Manufacturer; ComponentLink1URL: http://www.we-online.de; ComponentLink2Description: Datasheet; ComponentLink2URL: https://katalog.we-online.com/pbs/datasheet/885012207057.pdf; Operating Temperature: -55 to +125degC; Packaging: Tape and Reel; Publisher: Wurth Elektronik; Rated Voltage: 25VDC; Published Date: August 2019; Capacitance Tolerance: +/-10%; Dissipation Factor: =<3.5%; Height: 0.8mm +/-0.10mm; Mounting Technology: SMD; Size: 0805; Capacitance: 330pF
footprint WCAP-CSGP_0805_H=0.8mm_Wave
footprint WCAP-CSGP_0805_H=0.8mm_Reflow
pins: 1, 2

## 885012207058
designator C?, comment 470pF, 25V
WCAP-CSGP General Purpose Ceramic Capacitors, size 0805, 470pF, +/-10%, 25VDC; Part Number: 885012207058; Isolation Resistance: >=10GOhm; Ceramic Type: X7R; Technical Reference: X7R0805471K025DFCT10000; ComponentLink1Description: Manufacturer; ComponentLink1URL: http://www.we-online.de; ComponentLink2Description: Datasheet; ComponentLink2URL: https://katalog.we-online.com/pbs/datasheet/885012207058.pdf; Operating Temperature: -55 to +125degC; Packaging: Tape and Reel; Publisher: Wurth Elektronik; Rated Voltage: 25VDC; Published Date: August 2019; Capacitance Tolerance: +/-10%; Dissipation Factor: =<3.5%; Height: 0.8mm +/-0.10mm; Mounting Technology: SMD; Size: 0805; Capacitance: 470pF
footprint WCAP-CSGP_0805_H=0.8mm_Wave
footprint WCAP-CSGP_0805_H=0.8mm_Reflow
pins: 1, 2

## 885012207059
designator C?, comment 680pF, 25V
WCAP-CSGP General Purpose Ceramic Capacitors, size 0805, 680pF, +/-10%, 25VDC; Part Number: 885012207059; Isolation Resistance: >=10GOhm; Ceramic Type: X7R; Technical Reference: X7R0805681K025DFCT10000; ComponentLink1Description: Manufacturer; ComponentLink1URL: http://www.we-online.de; ComponentLink2Description: Datasheet; ComponentLink2URL: https://katalog.we-online.com/pbs/datasheet/885012207059.pdf; Operating Temperature: -55 to +125degC; Packaging: Tape and Reel; Publisher: Wurth Elektronik; Rated Voltage: 25VDC; Published Date: August 2019; Capacitance Tolerance: +/-10%; Dissipation Factor: =<3.5%; Height: 0.8mm +/-0.10mm; Mounting Technology: SMD; Size: 0805; Capacitance: 680pF
footprint WCAP-CSGP_0805_H=0.8mm_Wave
footprint WCAP-CSGP_0805_H=0.8mm_Reflow
pins: 1, 2

## 885012207060
designator C?, comment 1nF, 25V
WCAP-CSGP General Purpose Ceramic Capacitors, size 0805, 1nF, +/-10%, 25VDC; Part Number: 885012207060; Isolation Resistance: >=10GOhm; Ceramic Type: X7R; Technical Reference: X7R0805102K025DFCT10000; ComponentLink1Description: Manufacturer; ComponentLink1URL: http://www.we-online.de; ComponentLink2Description: Datasheet; ComponentLink2URL: https://katalog.we-online.com/pbs/datasheet/885012207060.pdf; Operating Temperature: -55 to +125degC; Packaging: Tape and Reel; Publisher: Wurth Elektronik; Rated Voltage: 25VDC; Published Date: August 2019; Capacitance Tolerance: +/-10%; Dissipation Factor: =<3.5%; Height: 0.8mm +/-0.10mm; Mounting Technology: SMD; Size: 0805; Capacitance: 1nF
footprint WCAP-CSGP_0805_H=0.8mm_Wave
footprint WCAP-CSGP_0805_H=0.8mm_Reflow
pins: 1, 2

## 885012207061
designator C?, comment 1.5nF, 25V
WCAP-CSGP General Purpose Ceramic Capacitors, size 0805, 1.5nF, +/-10%, 25VDC; Part Number: 885012207061; Isolation Resistance: >=10GOhm; Ceramic Type: X7R; Technical Reference: X7R0805152K025DFCT10000; ComponentLink1Description: Manufacturer; ComponentLink1URL: http://www.we-online.de; ComponentLink2Description: Datasheet; ComponentLink2URL: https://katalog.we-online.com/pbs/datasheet/885012207061.pdf; Operating Temperature: -55 to +125degC; Packaging: Tape and Reel; Publisher: Wurth Elektronik; Rated Voltage: 25VDC; Published Date: August 2019; Capacitance Tolerance: +/-10%; Dissipation Factor: =<3.5%; Height: 0.8mm +/-0.10mm; Mounting Technology: SMD; Size: 0805; Capacitance: 1.5nF
footprint WCAP-CSGP_0805_H=0.8mm_Wave
footprint WCAP-CSGP_0805_H=0.8mm_Reflow
pins: 1, 2

## 885012207062
designator C?, comment 2.2nF, 25V
WCAP-CSGP General Purpose Ceramic Capacitors, size 0805, 2.2nF, +/-10%, 25VDC; Part Number: 885012207062; Isolation Resistance: >=10GOhm; Ceramic Type: X7R; Technical Reference: X7R0805222K025DFCT10000; ComponentLink1Description: Manufacturer; ComponentLink1URL: http://www.we-online.de; ComponentLink2Description: Datasheet; ComponentLink2URL: https://katalog.we-online.com/pbs/datasheet/885012207062.pdf; Operating Temperature: -55 to +125degC; Packaging: Tape and Reel; Publisher: Wurth Elektronik; Rated Voltage: 25VDC; Published Date: August 2019; Capacitance Tolerance: +/-10%; Dissipation Factor: =<3.5%; Height: 0.8mm +/-0.10mm; Mounting Technology: SMD; Size: 0805; Capacitance: 2.2nF
footprint WCAP-CSGP_0805_H=0.8mm_Wave
footprint WCAP-CSGP_0805_H=0.8mm_Reflow
pins: 1, 2

## 885012207063
designator C?, comment 3.3nF, 25V
WCAP-CSGP General Purpose Ceramic Capacitors, size 0805, 3.3nF, +/-10%, 25VDC; Part Number: 885012207063; Isolation Resistance: >=10GOhm; Ceramic Type: X7R; Technical Reference: X7R0805332K025DFCT10000; ComponentLink1Description: Manufacturer; ComponentLink1URL: http://www.we-online.de; ComponentLink2Description: Datasheet; ComponentLink2URL: https://katalog.we-online.com/pbs/datasheet/885012207063.pdf; Operating Temperature: -55 to +125degC; Packaging: Tape and Reel; Publisher: Wurth Elektronik; Rated Voltage: 25VDC; Published Date: August 2019; Capacitance Tolerance: +/-10%; Dissipation Factor: =<3.5%; Height: 0.8mm +/-0.10mm; Mounting Technology: SMD; Size: 0805; Capacitance: 3.3nF
footprint WCAP-CSGP_0805_H=0.8mm_Wave
footprint WCAP-CSGP_0805_H=0.8mm_Reflow
pins: 1, 2

## 885012207064
designator C?, comment 4.7nF, 25V
WCAP-CSGP General Purpose Ceramic Capacitors, size 0805, 4.7nF, +/-10%, 25VDC; Part Number: 885012207064; Isolation Resistance: >=10GOhm; Ceramic Type: X7R; Technical Reference: X7R0805472K025DFCT10000; ComponentLink1Description: Manufacturer; ComponentLink1URL: http://www.we-online.de; ComponentLink2Description: Datasheet; ComponentLink2URL: https://katalog.we-online.com/pbs/datasheet/885012207064.pdf; Operating Temperature: -55 to +125degC; Packaging: Tape and Reel; Publisher: Wurth Elektronik; Rated Voltage: 25VDC; Published Date: August 2019; Capacitance Tolerance: +/-10%; Dissipation Factor: =<3.5%; Height: 0.8mm +/-0.10mm; Mounting Technology: SMD; Size: 0805; Capacitance: 4.7nF
footprint WCAP-CSGP_0805_H=0.8mm_Wave
footprint WCAP-CSGP_0805_H=0.8mm_Reflow
pins: 1, 2

## 885012207065
designator C?, comment 6.8nF, 25V
WCAP-CSGP General Purpose Ceramic Capacitors, size 0805, 6.8nF, +/-10%, 25VDC; Part Number: 885012207065; Isolation Resistance: >=10GOhm; Ceramic Type: X7R; Technical Reference: X7R0805682K025DFCT10000; ComponentLink1Description: Manufacturer; ComponentLink1URL: http://www.we-online.de; ComponentLink2Description: Datasheet; ComponentLink2URL: https://katalog.we-online.com/pbs/datasheet/885012207065.pdf; Operating Temperature: -55 to +125degC; Packaging: Tape and Reel; Publisher: Wurth Elektronik; Rated Voltage: 25VDC; Published Date: August 2019; Capacitance Tolerance: +/-10%; Dissipation Factor: =<3.5%; Height: 0.8mm +/-0.10mm; Mounting Technology: SMD; Size: 0805; Capacitance: 6.8nF
footprint WCAP-CSGP_0805_H=0.8mm_Wave
footprint WCAP-CSGP_0805_H=0.8mm_Reflow
pins: 1, 2

## 885012207066
designator C?, comment 10nF, 25V
WCAP-CSGP General Purpose Ceramic Capacitors, size 0805, 10nF, +/-10%, 25VDC; Part Number: 885012207066; Isolation Resistance: >=10GOhm; Ceramic Type: X7R; Technical Reference: X7R0805103K025DFCT10000; ComponentLink1Description: Manufacturer; ComponentLink1URL: http://www.we-online.de; ComponentLink2Description: Datasheet; ComponentLink2URL: https://katalog.we-online.com/pbs/datasheet/885012207066.pdf; Operating Temperature: -55 to +125degC; Packaging: Tape and Reel; Publisher: Wurth Elektronik; Rated Voltage: 25VDC; Published Date: August 2019; Capacitance Tolerance: +/-10%; Dissipation Factor: =<3.5%; Height: 0.8mm +/-0.10mm; Mounting Technology: SMD; Size: 0805; Capacitance: 10nF
footprint WCAP-CSGP_0805_H=0.8mm_Wave
footprint WCAP-CSGP_0805_H=0.8mm_Reflow
pins: 1, 2

## 885012207067
designator C?, comment 15nF, 25V
WCAP-CSGP General Purpose Ceramic Capacitors, size 0805, 15nF, +/-10%, 25VDC; Part Number: 885012207067; Isolation Resistance: >=10GOhm; Ceramic Type: X7R; Technical Reference: X7R0805153K025DFCT10000; ComponentLink1Description: Manufacturer; ComponentLink1URL: http://www.we-online.de; ComponentLink2Description: Datasheet; ComponentLink2URL: https://katalog.we-online.com/pbs/datasheet/885012207067.pdf; Operating Temperature: -55 to +125degC; Packaging: Tape and Reel; Publisher: Wurth Elektronik; Rated Voltage: 25VDC; Published Date: August 2019; Capacitance Tolerance: +/-10%; Dissipation Factor: =<3.5%; Height: 0.8mm +/-0.10mm; Mounting Technology: SMD; Size: 0805; Capacitance: 15nF
footprint WCAP-CSGP_0805_H=0.8mm_Wave
footprint WCAP-CSGP_0805_H=0.8mm_Reflow
pins: 1, 2

## 885012207068
designator C?, comment 22nF, 25V
WCAP-CSGP General Purpose Ceramic Capacitors, size 0805, 22nF, +/-10%, 25VDC; Part Number: 885012207068; Isolation Resistance: >=10GOhm; Ceramic Type: X7R; Technical Reference: X7R0805223K025DFCT10000; ComponentLink1Description: Manufacturer; ComponentLink1URL: http://www.we-online.de; ComponentLink2Description: Datasheet; ComponentLink2URL: https://katalog.we-online.com/pbs/datasheet/885012207068.pdf; Operating Temperature: -55 to +125degC; Packaging: Tape and Reel; Publisher: Wurth Elektronik; Rated Voltage: 25VDC; Published Date: August 2019; Capacitance Tolerance: +/-10%; Dissipation Factor: =<3.5%; Height: 0.8mm +/-0.10mm; Mounting Technology: SMD; Size: 0805; Capacitance: 22nF
footprint WCAP-CSGP_0805_H=0.8mm_Wave
footprint WCAP-CSGP_0805_H=0.8mm_Reflow
pins: 1, 2

## 885012207069
designator C?, comment 33nF, 25V
WCAP-CSGP General Purpose Ceramic Capacitors, size 0805, 33nF, +/-10%, 25VDC; Part Number: 885012207069; Isolation Resistance: >=10GOhm; Ceramic Type: X7R; Technical Reference: X7R0805333K025DFCT10000; ComponentLink1Description: Manufacturer; ComponentLink1URL: http://www.we-online.de; ComponentLink2Description: Datasheet; ComponentLink2URL: https://katalog.we-online.com/pbs/datasheet/885012207069.pdf; Operating Temperature: -55 to +125degC; Packaging: Tape and Reel; Publisher: Wurth Elektronik; Rated Voltage: 25VDC; Published Date: August 2019; Capacitance Tolerance: +/-10%; Dissipation Factor: =<3.5%; Height: 0.8mm +/-0.10mm; Mounting Technology: SMD; Size: 0805; Capacitance: 33nF
footprint WCAP-CSGP_0805_H=0.8mm_Wave
footprint WCAP-CSGP_0805_H=0.8mm_Reflow
pins: 1, 2